# Altium schematic symbol library 4pin.SchLib: 1 symbol
Pins are listed as number, name and electrical type; pins without a type are passive.

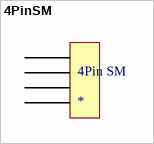
[diagram p0: symbol 4PinSM]

## 4PinSM
designator 4Pin SM
footprint SOIC127P370X135-2N (SOIC, 2-Leads, Body 1.55x2.70mm, Pitch 1.27mm, IPC Medium Density)
pins: 4P1, 4P2, 4P3, 4P4